# EAGLE library part 4R34P (library con-harting)
CONNECTOR
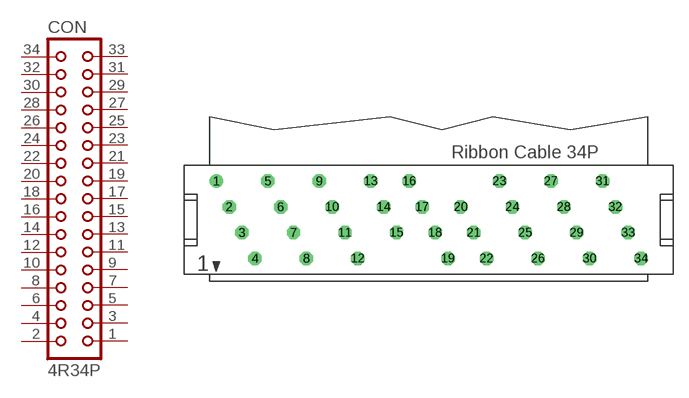
[diagram p4: symbol with the pads of 4R34P; footprint 4R34P]

Designator prefix CON

## 4R34P (OC_FARNELL: unknown; OC_NEWARK: unknown)  [4R34P]
1  1  pas
2  2  pas
3  3  pas
4  4  pas
5  5  pas
6  6  pas
7  7  pas
8  8  pas
9  9  pas
10  10  pas
11  11  pas
12  12  pas
13  13  pas
14  14  pas
15  15  pas
16  16  pas
17  17  pas
18  18  pas
19  19  pas
20  20  pas
21  21  pas
22  22  pas
23  23  pas
24  24  pas
25  25  pas
26  26  pas
27  27  pas
28  28  pas
29  29  pas
30  30  pas
31  31  pas
32  32  pas
33  33  pas
34  34  pas

## Footprint 4R34P (pad centres in mm)
CONNECTOR
drill 0.813: 1 -20.955,3.81
drill 0.813 octagon: 2 -19.685,1.27; 3 -18.415,-1.27; 4 -17.145,-3.81; 5 -15.875,3.81; 6 -14.605,1.27; 7 -13.335,-1.27; 8 -12.065,-3.81; 9 -10.795,3.81; 10 -9.525,1.27; 11 -8.255,-1.27; 12 -6.985,-3.81; 13 -5.715,3.81; 14 -4.445,1.27; 15 -3.175,-1.27; 16 -1.905,3.81; 17 -0.635,1.27; 18 0.635,-1.27; 19 1.905,-3.81; 20 3.175,1.27; 21 4.445,-1.27; 22 5.715,-3.81; 23 6.985,3.81; 24 8.255,1.27; 25 9.525,-1.27; 26 10.795,-3.81; 27 12.065,3.81; 28 13.335,1.27; 29 14.605,-1.27; 30 15.875,-3.81; 31 17.145,3.81; 32 18.415,1.27; 33 19.685,-1.27; 34 20.955,-3.81